# Altium schematic symbol library CD4030BEE4.SchLib: 1 symbol
Pins are listed as number, name and electrical type; pins without a type are passive.

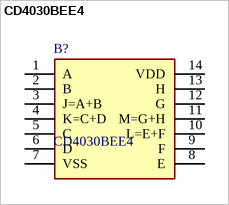
[diagram p0: symbol CD4030BEE4]

## CD4030BEE4
designator B?
Logic Gates Quad Exclusive; Manufacturer_Name: Texas Instruments; Geometry.Height: 5.08mm; Mouser Part Number: 595-CD4030BEE4; Mouser Price/Stock: https://www.mouser.co.uk/ProductDetail/Texas-Instruments/CD4030BEE4?qs=HTr%252BoA4jRimUi4oK1XWqng%3D%3D; Manufacturer_Part_Number: CD4030BEE4; Datasheet Link: https://www.ti.com/lit/gpn/CD4030B
footprint DIP794W53P254L1930H508Q14N
pins: 1 A, 2 B, 3 J=A+B, 4 K=C+D, 5 C, 6 D, 7 VSS, 8 E, 9 F, 10 L=E+F, 11 M=G+H, 12 G, 13 H, 14 VDD